# Altium footprint library SOT23.PcbLib: 1 footprints
Each footprint in its own frame and in the unit in brackets; x right, y up, seen from the top. Pads: shape width x height; smd on the part's side, far side on the other; paste and mask are expansions set on the pad; w line width, h text height; cw(c..) or ccw(c..) is an arc to the next point about the centre after c.
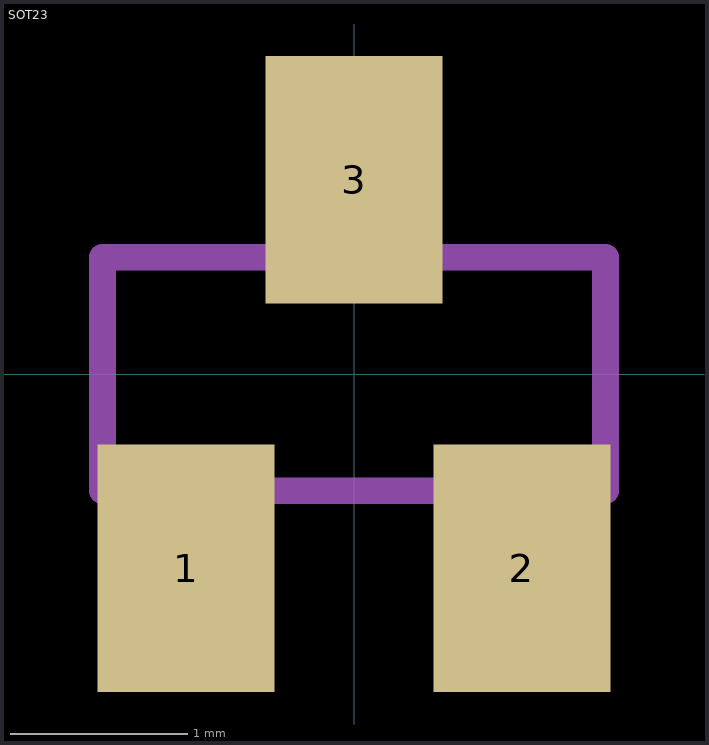
[diagram p0: the footprint, top view; thin cyan lines are the x and y axes]

## SOT23 [mm]
pads (3):
  rect 1x1.4 smd: 1(-0.95,-1.1) 2(0.95,-1.1) 3(0,1.1)
Mechanical 13:
  region: -0.711,-1.295 -1.168,-1.295 -1.168,-0.711 -0.711,-0.711
  region: 1.168,-1.295 0.711,-1.295 0.711,-0.711 1.168,-0.711
  region: 0.229,0.711 -0.229,0.711 -0.229,1.295 0.229,1.295
  lines w0.152: -1.422,-0.66 -1.422,0.66 1.422,0.66 1.422,-0.66 -1.422,-0.66
3D body "SM712.TCT--3DModel-STEP-56544.STEP": height 1.2, standoff 0, extent -1.45,-1.185 1.45,1.185